# EAGLE library part CN_2X3P (library lieBtrau)
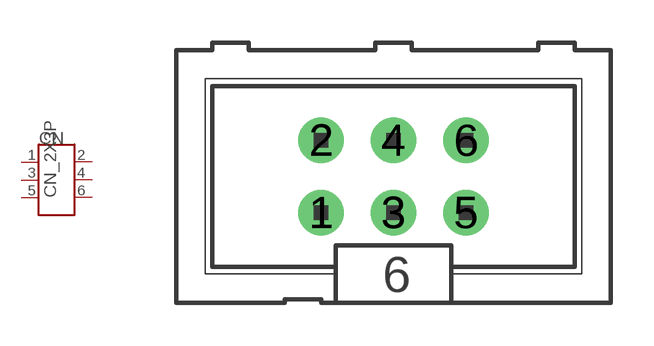
[diagram p2: symbol with the pads of CN_HDR_2X3_180D_P25_3M; footprint CN_HDR_2X3_180D_P25_3M]

Designator prefix CN

## CN_2X3P_IDC6_180D_P25_3M (COST: 0.58; ORDERCODE: 3M15451-ND; VALUE: 30306-6002HB)  [CN_HDR_2X3_180D_P25_3M]
1  1
2  2
3  3
4  4
5  5
6  6

## Footprint CN_HDR_2X3_180D_P25_3M (pad centres in mm)
HARTING
drill 0.9 pad 1.6: 1 -2.54,-1.27; 2 -2.54,1.27; 3 0,-1.27; 4 0,1.27; 5 2.54,-1.27; 6 2.54,1.27